# EAGLE library part HDPM01 (library JeeLabs)
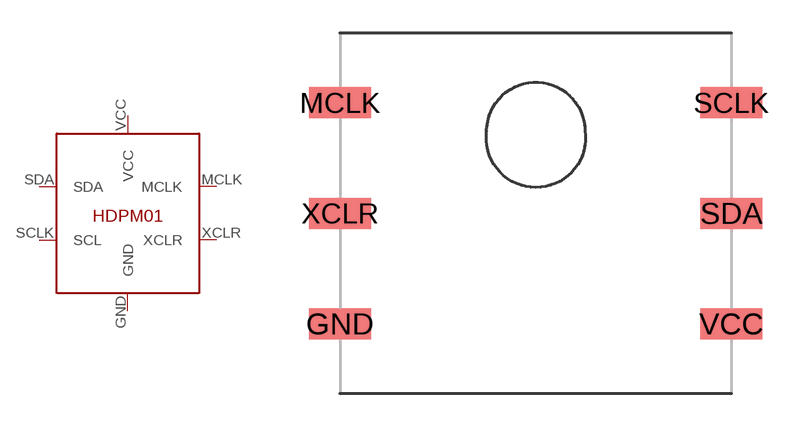
[diagram p24: symbol with the pads of HDPM01; footprint HDPM01]

Designator prefix -

## HDPM01  [HDPM01]
GND  GND  pwr
MCLK  MCLK  in
SCLK  SCL
SDA  SDA
VCC  VCC  pwr
XCLR  XCLR  in

## Footprint HDPM01 (pad centres in mm)
smd 2.8 x 1.4: GND -8.85,-5; MCLK -8.85,5; SCLK 8.85,5; SDA 8.85,0; VCC 8.85,-5; XCLR -8.85,0